# EAGLE library part ADXL337-SPARKFUN-BREAKOUT (library EDS_Eagle_Library)
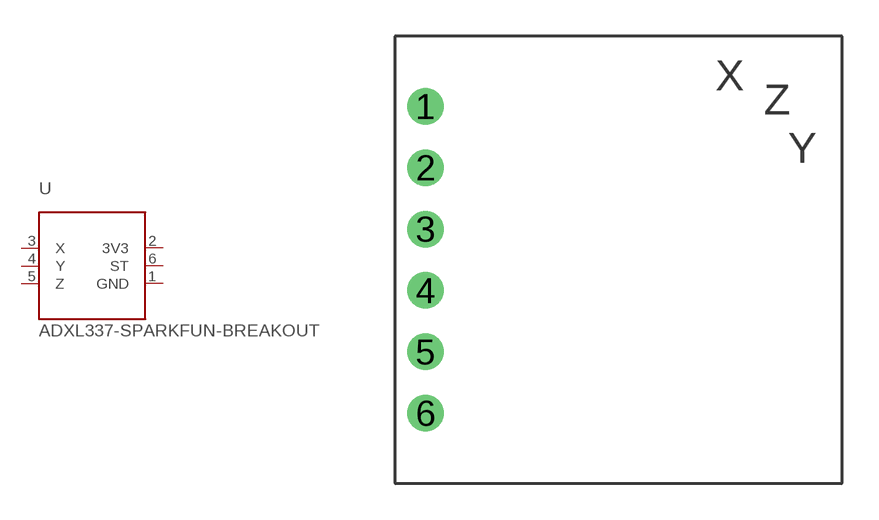
[diagram p5: symbol with the pads of ADXL337-SPARKFUN-BREAKOUT; footprint ADXL337-SPARKFUN-BREAKOUT]

Designator prefix -

## ADXL337-SPARKFUN-BREAKOUT  [ADXL337-SPARKFUN-BREAKOUT]
1  GND
2  3V3
3  X
4  Y
5  Z
6  ST

## Footprint ADXL337-SPARKFUN-BREAKOUT (pad centres in mm)
drill 1: 1 -7.98,6.35; 2 -7.98,3.81; 3 -7.98,1.27; 4 -7.98,-1.27; 5 -7.98,-3.81; 6 -7.98,-6.35